# Altium footprint library RESC2016N.PcbLib: 1 footprints
Each footprint in its own frame and in the unit in brackets; x right, y up, seen from the top. Pads: shape width x height; smd on the part's side, far side on the other; paste and mask are expansions set on the pad; w line width, h text height; cw(c..) or ccw(c..) is an arc to the next point about the centre after c.
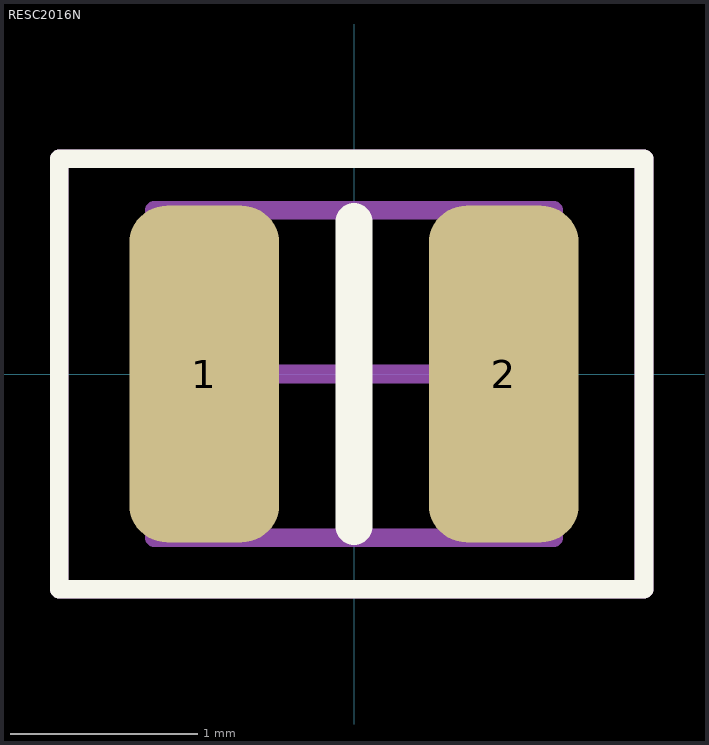
[diagram p0: the footprint, top view; thin cyan lines are the x and y axes]

## RESC2016N [mm]
pads (2):
  rrect50% 0.8x1.8 smd: 1(-0.8,0) 2(0.8,0)
Top Overlay:
  lines w0.1: -1.575,-1.15 1.549,-1.15 1.549,1.15 -1.575,1.15 -1.575,-1.15
  lines w0.2: 0,-0.813 0,0.813
Mechanical 13:
  lines w0.1: -1.067,-0.875 1.067,-0.875 1.067,0.875 -1.067,0.875 -1.067,-0.875
Mechanical 15:
  lines w0.1: -0.5,0 0.5,0 ; 0,-0.5 0,0.5 ; -1.575,-1.15 -1.575,1.15 1.549,1.15 1.549,-1.15 -1.575,-1.15
3D body: height 0.65, standoff 0, extent -1.075,-0.864 1.075,0.864